# Altium schematic symbol library libProject.SchLib: 9 symbols
Pins are listed as number, name and electrical type; pins without a type are passive.

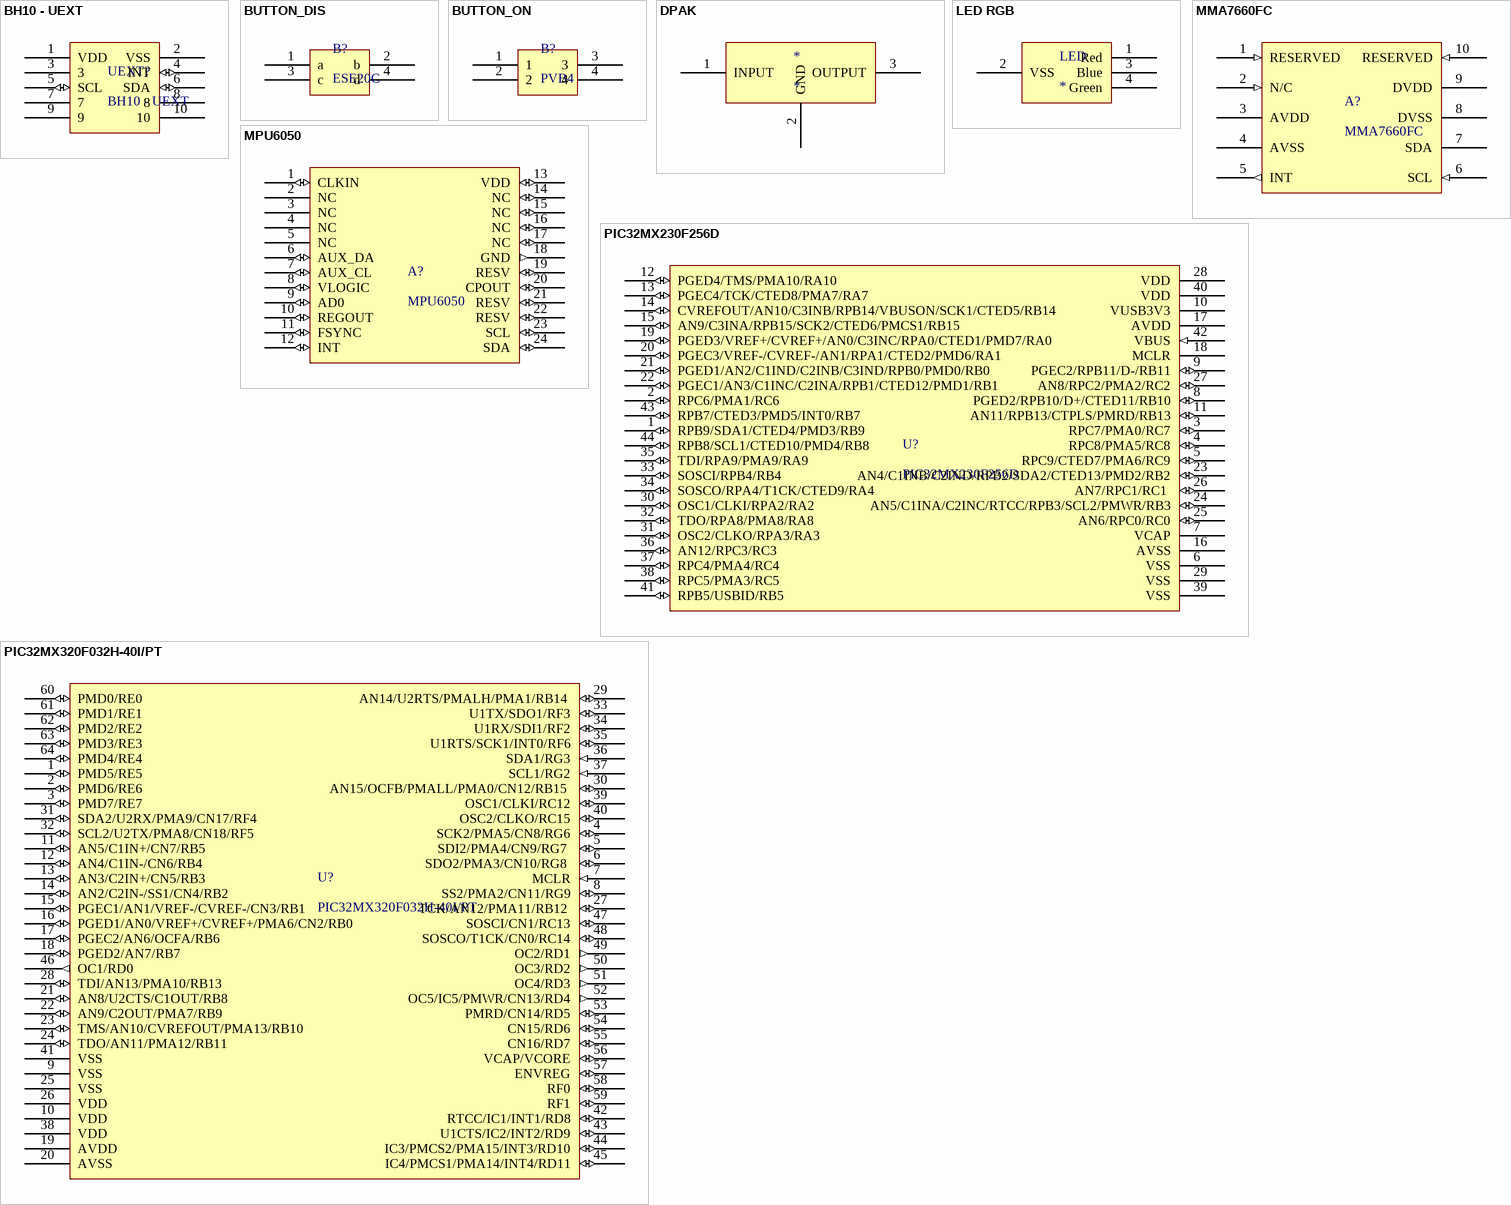
[diagram p0: symbols BH10 - UEXT to PIC32MX320F032H-40I/PT]

## BH10 - UEXT
designator UEXT?
Connection accelero module
footprint ACCELERO
pins: 1 VDD (power), 2 VSS (power), 3, 4 INT (io), 5 SCL (io), 6 SDA (io), 7, 8, 9, 10

## BUTTON_DIS
designator B?, comment ESE20C
Push switch; Fournisseur: Farnell; Fabricant: Panasonic; Ref. fabricant: ESE20C441; Ref. fournisseur: 2079607
footprint BUTTON_DIS
pins: 1 a, 2 b, 3 c, 4 d

## BUTTON_ON
designator B?, comment PVB4
Push switch ON/OFF; Ref. fournisseur: 2435330; Fournisseur: Farnell; Fabricant: C&K COMPONENTS; Ref. fabricant: PVB4 EE 300 NS LFS
footprint BUTTON ON/OFF
pins: 1, 2, 3, 4

## DPAK
designator *
pins: 1 INPUT (power), 2 GND (power), 3 OUTPUT (power)

## LED RGB
designator LED
Fabricant: MULTICOMP; Ref fabricant: 703-1028; Fournisseur: Farnell; Ref fournisseur: 2112143
pins: 1 Red, 2 VSS (power), 3 Blue, 4 Green

## MMA7660FC
designator A?
Fabricant: Freescale / NXP; Ref. fabricant: MMA7660FCT; Fournisseur: Farnell; Ref. fournisseur: 2238133
pins: 1 RESERVED (in), 2 N/C (in), 3 AVDD (power), 4 AVSS (power), 5 INT (out) "Interrupt/Data Ready", 6 SCL (in), 7 SDA (oe), 8 DVSS (power), 9 DVDD (power), 10 RESERVED (in)

## MPU6050
designator A?
pins: 1 CLKIN (io) "Connect to GND if unused", 2 NC, 3 NC, 4 NC, 5 NC, 6 AUX_DA (io) "I2C master serial data, for connecting to external sensors", 7 AUX_CL (io) "I2C Master serial clock, for connecting to external sensors", 8 VLOGIC (io) "Digital I/O supply voltage", 9 AD0 (io) "I2C Slave adress LSB (AD0)", 10 REGOUT (io) "Regulator  filter capacitor connection", 11 FSYNC (io) "Frame synchronization digital input. Connect to GND if unused", 12 INT (io) "Interrupt digital output (totem pole or open-drain)", 13 VDD (io) "Power supply voltage and digital I/O supply voltage", 14 NC (io), 15 NC (io), 16 NC (io), 17 NC (io), 18 GND (out), 19 RESV (io) "Do not connect", 20 CPOUT (io) "Charge pump capacitor connection", 21 RESV (io) "Do not connect", 22 RESV (io) "Do not connect", 23 SCL (io) "I2C serial clock", 24 SDA (io) "I2C serial data"

## PIC32MX230F256D
designator U?
Fournisseur: Farnell; Fabricant: Microchip; Ref. fournisseur: 2496725; Ref. fabricant: PIC32MX230F256D-I/PT
footprint PIC32
pins: 1 RPB9/SDA1/CTED4/PMD3/RB9 (io), 2 RPC6/PMA1/RC6 (io), 3 RPC7/PMA0/RC7 (io), 4 RPC8/PMA5/RC8 (io), 5 RPC9/CTED7/PMA6/RC9 (io), 6 VSS (power), 7 VCAP (power), 8 PGED2/RPB10/D+/CTED11/RB10 (io), 9 PGEC2/RPB11/D-/RB11 (io), 10 VUSB3V3 (power), 11 AN11/RPB13/CTPLS/PMRD/RB13 (io), 12 PGED4/TMS/PMA10/RA10 (io), 13 PGEC4/TCK/CTED8/PMA7/RA7 (io), 14 CVREFOUT/AN10/C3INB/RPB14/VBUSON/SCK1/CTED5/RB14 (io), 15 AN9/C3INA/RPB15/SCK2/CTED6/PMCS1/RB15 (io), 16 AVSS (power), 17 AVDD (power), 18 MCLR (power), 19 PGED3/VREF+/CVREF+/AN0/C3INC/RPA0/CTED1/PMD7/RA0 (io), 20 PGEC3/VREF-/CVREF-/AN1/RPA1/CTED2/PMD6/RA1 (io), 21 PGED1/AN2/C1IND/C2INB/C3IND/RPB0/PMD0/RB0 (io), 22 PGEC1/AN3/C1INC/C2INA/RPB1/CTED12/PMD1/RB1 (io), 23 AN4/C1INB/C2IND/RPB2/SDA2/CTED13/PMD2/RB2 (io), 24 AN5/C1INA/C2INC/RTCC/RPB3/SCL2/PMWR/RB3 (io), 25 AN6/RPC0/RC0 (io), 26 AN7/RPC1/RC1  (io), 27 AN8/RPC2/PMA2/RC2 (io), 28 VDD (power), 29 VSS (power), 30 OSC1/CLKI/RPA2/RA2 (io), 31 OSC2/CLKO/RPA3/RA3 (io), 32 TDO/RPA8/PMA8/RA8 (io), 33 SOSCI/RPB4/RB4 (io), 34 SOSCO/RPA4/T1CK/CTED9/RA4 (io), 35 TDI/RPA9/PMA9/RA9 (io), 36 AN12/RPC3/RC3 (io), 37 RPC4/PMA4/RC4 (io), 38 RPC5/PMA3/RC5 (io), 39 VSS (power), 40 VDD (power), 41 RPB5/USBID/RB5 (io), 42 VBUS (in), 43 RPB7/CTED3/PMD5/INT0/RB7 (io), 44 RPB8/SCL1/CTED10/PMD4/RB8 (io)

## PIC32MX320F032H-40I/PT
designator U?
Fournisseur: Farnell; Ref. fournisseur: 1523318; Fabricant: MICROCHIP; Ref. fabricant: PIC32MX320F032H-40I/PT
pins: 1 PMD5/RE5 (io), 2 PMD6/RE6 (io), 3 PMD7/RE7 (io), 4 SCK2/PMA5/CN8/RG6 (io), 5 SDI2/PMA4/CN9/RG7  (io), 6 SDO2/PMA3/CN10/RG8  (io), 7 MCLR (in), 8 SS2/PMA2/CN11/RG9 (io), 9 VSS (power), 10 VDD (power), 11 AN5/C1IN+/CN7/RB5 (io), 12 AN4/C1IN-/CN6/RB4  (io), 13 AN3/C2IN+/CN5/RB3 (io), 14 AN2/C2IN-/SS1/CN4/RB2 (io), 15 PGEC1/AN1/VREF-/CVREF-/CN3/RB1 (io), 16 PGED1/AN0/VREF+/CVREF+/PMA6/CN2/RB0 (io), 17 PGEC2/AN6/OCFA/RB6 (io), 18 PGED2/AN7/RB7 (io), 19 AVDD (power), 20 AVSS (power), 21 AN8/U2CTS/C1OUT/RB8 (io), 22 AN9/C2OUT/PMA7/RB9 (io), 23 TMS/AN10/CVREFOUT/PMA13/RB10 (io), 24 TDO/AN11/PMA12/RB11 (io), 25 VSS (power), 26 VDD (power), 27 TCK/AN12/PMA11/RB12  (io), 28 TDI/AN13/PMA10/RB13  (io), 29 AN14/U2RTS/PMALH/PMA1/RB14  (io), 30 AN15/OCFB/PMALL/PMA0/CN12/RB15  (io), 31 SDA2/U2RX/PMA9/CN17/RF4  (io), 32 SCL2/U2TX/PMA8/CN18/RF5  (io), 33 U1TX/SDO1/RF3 (io), 34 U1RX/SDI1/RF2 (io), 35 U1RTS/SCK1/INT0/RF6 (io), 36 SDA1/RG3 (in), 37 SCL1/RG2 (in), 38 VDD (power), 39 OSC1/CLKI/RC12 (io), 40 OSC2/CLKO/RC15 (io), 41 VSS (power), 42 RTCC/IC1/INT1/RD8 (io), 43 U1CTS/IC2/INT2/RD9 (io), 44 IC3/PMCS2/PMA15/INT3/RD10 (io), 45 IC4/PMCS1/PMA14/INT4/RD11 (io), 46 OC1/RD0 (out), 47 SOSCI/CN1/RC13 (io), 48 SOSCO/T1CK/CN0/RC14 (io), 49 OC2/RD1 (out), 50 OC3/RD2 (out), 51 OC4/RD3 (out), 52 OC5/IC5/PMWR/CN13/RD4 (out), 53 PMRD/CN14/RD5 (io), 54 CN15/RD6 (io), 55 CN16/RD7 (io), 56 VCAP/VCORE (io), 57 ENVREG (io), 58 RF0 (io), 59 RF1 (io), 60 PMD0/RE0 (io), 61 PMD1/RE1 (io), 62 PMD2/RE2 (io), 63 PMD3/RE3 (io), 64 PMD4/RE4 (io)